# EAGLE library part KAYO_FEEDER_STM8S003 (library kxn_Standard_stm8)
Value line, 16 MHz STM8S 8-bit MCU, 8 Kbytes Flash, 128 bytes data EEPROM, 10-bit ADC, 3 timers, UART, SPI, I2C
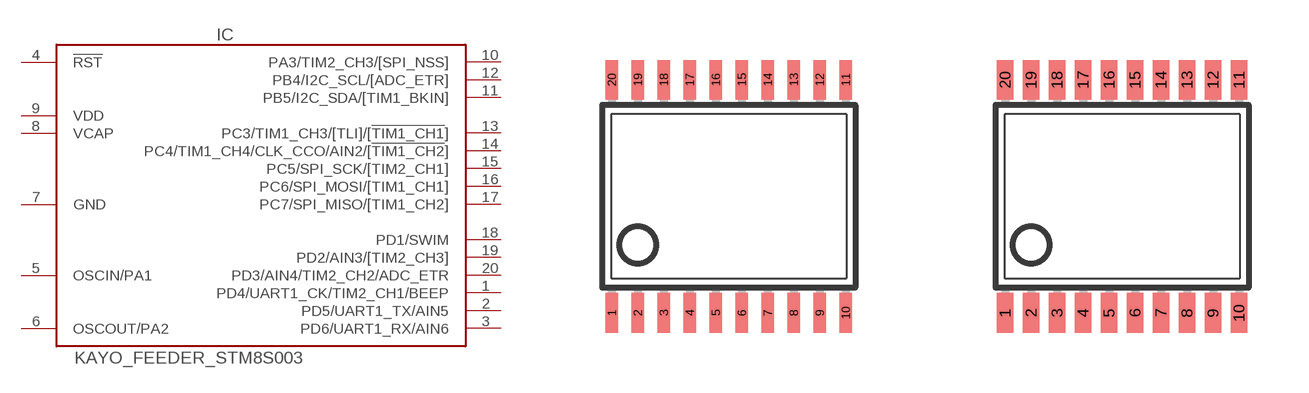
[diagram p0: symbol with the pads of TSSOP20; footprints TSSOP20, TSSOP20_PROTOTYPE]

Designator prefix IC

## KAYO_FEEDER_STM8S003F3  [TSSOP20]
1  PD4/UART1_CK/TIM2_CH1/BEEP
2  PD5/UART1_TX/AIN5
3  PD6/UART1_RX/AIN6
4  !RST  in
5  OSCIN/PA1
6  OSCOUT/PA2
7  GND  pwr
8  VCAP  pwr
9  VDD  pwr
10  PA3/TIM2_CH3/[SPI_NSS]
11  PB5/I2C_SDA/[TIM1_BKIN]
12  PB4/I2C_SCL/[ADC_ETR]
13  PC3/TIM1_CH3/[TLI]/[!TIM1_CH1!]
14  PC4/TIM1_CH4/CLK_CCO/AIN2/[!TIM1_CH2!]
15  PC5/SPI_SCK/[TIM2_CH1]
16  PC6/SPI_MOSI/[TIM1_CH1]
17  PC7/SPI_MISO/[TIM1_CH2]
18  PD1/SWIM
19  PD2/AIN3/[TIM2_CH3]
20  PD3/AIN4/TIM2_CH2/ADC_ETR

## KAYO_FEEDER_STM8S003  [TSSOP20_PROTOTYPE]
Pads as for TSSOP20

## Footprint TSSOP20 (pad centres in mm)
Thin Shrink Small Outline Plastic 20 MAX3223-MAX3243.pdf
smd 0.305 x 0.991: 1 -2.925,-2.918; 2 -2.275,-2.918; 3 -1.625,-2.918; 4 -0.975,-2.918; 5 -0.325,-2.918; 6 0.325,-2.918; 7 0.975,-2.918; 8 1.625,-2.918; 9 2.275,-2.918; 10 2.925,-2.918; 11 2.925,2.918; 12 2.275,2.918; 13 1.625,2.918; 14 0.975,2.918; 15 0.325,2.918; 16 -0.325,2.918; 17 -0.975,2.918; 18 -1.625,2.918; 19 -2.275,2.918; 20 -2.925,2.918

## Footprint TSSOP20_PROTOTYPE (pad centres in mm)
smd 0.405 x 0.991: 1 -2.925,-2.918; 2 -2.275,-2.918; 3 -1.625,-2.918; 4 -0.975,-2.918; 5 -0.325,-2.918; 6 0.325,-2.918; 7 0.975,-2.918; 8 1.625,-2.918; 9 2.275,-2.918; 10 2.925,-2.918; 11 2.925,2.918; 12 2.275,2.918; 13 1.625,2.918; 14 0.975,2.918; 15 0.325,2.918; 16 -0.325,2.918; 17 -0.975,2.918; 18 -1.625,2.918; 19 -2.275,2.918; 20 -2.925,2.918